# EAGLE library part VND7040AJTR-E (library FSAE Eletric)
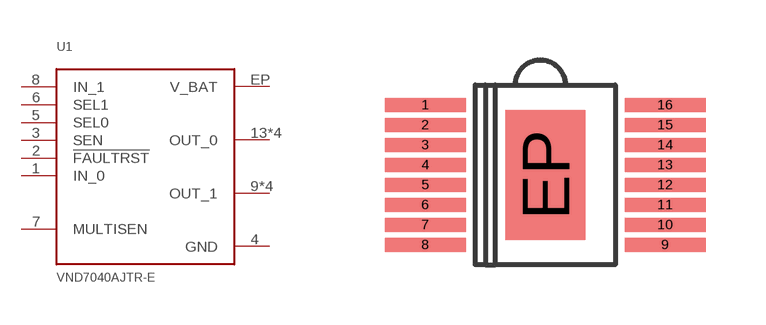
[diagram p54: symbol with the pads of SSO-16-POWER; footprint SSO-16-POWER]

Designator prefix U1

## VND7040AJTR-E  [SSO-16-POWER]
1  IN_0
2  !FAULTRST
3  SEN
4  GND
5  SEL0
6  SEL1
7  MULTISEN
8  IN_1
9  OUT_1
10  OUT_1
11  OUT_1
12  OUT_1
13  OUT_0
14  OUT_0
15  OUT_0
16  OUT_0
EP  V_BAT

## Footprint SSO-16-POWER (pad centres in mm)
smd 2.032 x 0.35: 1 -3,1.75; 2 -3,1.25; 3 -3,0.75; 4 -3,0.25; 5 -3,-0.25; 6 -3,-0.75; 7 -3,-1.25; 8 -3,-1.75; 9 3,-1.75; 10 3,-1.25; 11 3,-0.75; 12 3,-0.25; 13 3,0.25; 14 3,0.75; 15 3,1.25; 16 3,1.75
smd 2 x 3.25: EP 0,0